# Altium footprint library DASH1_PcbLib1.PcbLib: 26 footprints (part 1 of 2)
Each footprint in its own frame and in the unit in brackets; x right, y up, seen from the top. Pads: shape width x height; smd on the part's side, far side on the other; paste and mask are expansions set on the pad; w line width, h text height; cw(c..) or ccw(c..) is an arc to the next point about the centre after c.
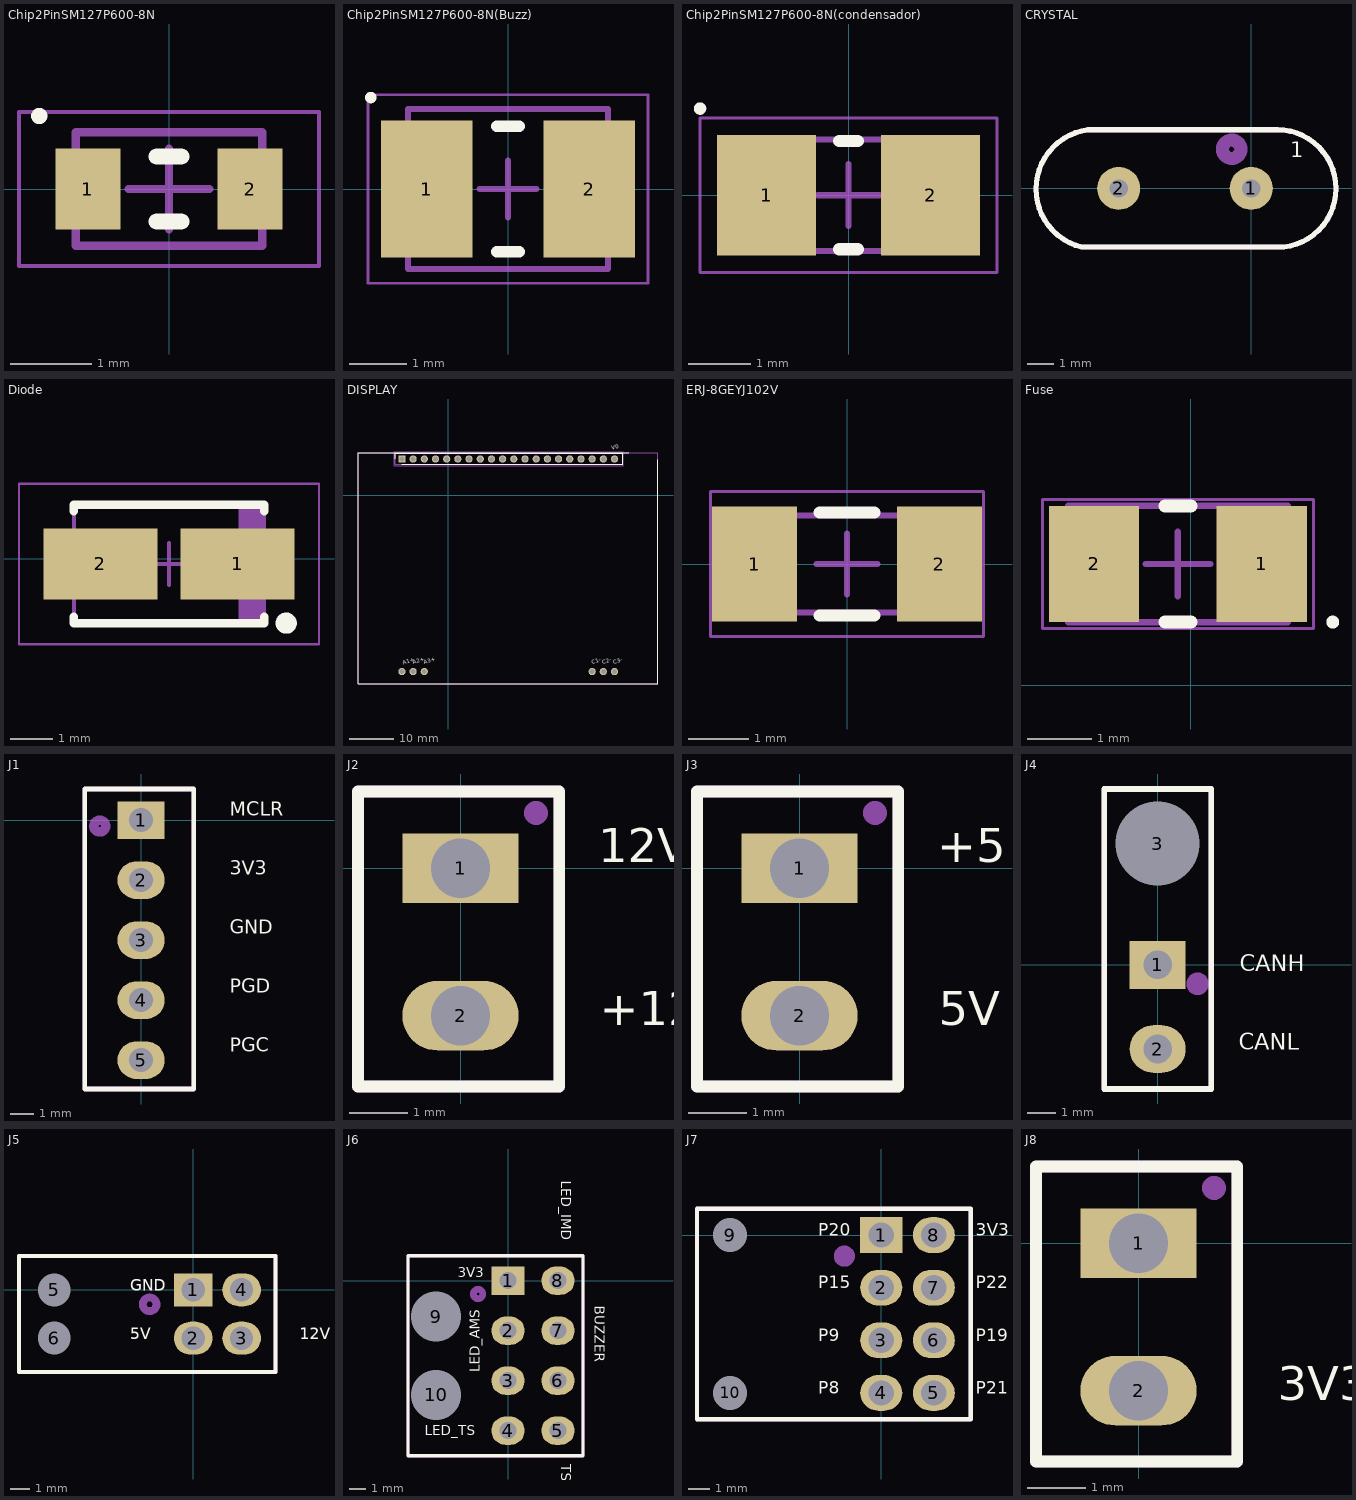
[diagram p0: the footprints below, top view; thin cyan lines are the x and y axes]

## Chip2PinSM127P600-8N [mm]
height 1.31
pads (2):
  rect 0.8x1 smd: 1(-1,0) 2(1,0)
Top Overlay:
  circle w0.1: c-1.6,0.9 r0.05
  lines w0.2: -0.15,-0.4 0.15,-0.4 ; -0.15,0.4 0.15,0.4
Mechanical 13:
  lines w0.1: -1.15,-0.7 -1.15,0.7 1.15,0.7 1.15,-0.7 -1.15,-0.7
Mechanical 15:
  lines w0.05: -1.85,-0.95 -1.85,0.95 1.85,0.95 1.85,-0.95 -1.85,-0.95
  lines w0.1: -0.5,0 0.5,0 ; 0,-0.5 0,0.5
3D body: height 1.31, standoff 0, extent -0.6,-0.7 0.6,0.7
3D body: height 1.31, standoff 0, extent -1.15,-0.7 -0.6,0.7
3D body: height 1.31, standoff 0, extent 0.6,-0.7 1.15,0.7

## Chip2PinSM127P600-8N(Buzz) [mm]
height 1.9
pads (2):
  rect 1.6x2.4 smd: 1(-1.425,0) 2(1.425,0)
Top Overlay:
  circle w0.1: c-2.4,1.6 r0.05
  lines w0.2: -0.2,-1.1 0.2,-1.1 ; -0.2,1.1 0.2,1.1
Mechanical 13:
  lines w0.1: -1.75,-1.4 -1.75,1.4 1.75,1.4 1.75,-1.4 -1.75,-1.4
Mechanical 15:
  lines w0.05: -2.45,-1.65 -2.45,1.65 2.45,1.65 2.45,-1.65 -2.45,-1.65
  lines w0.1: -0.5,0 0.5,0 ; 0,-0.5 0,0.5
3D body: height 1.9, standoff 0, extent -0.85,-1.4 0.85,1.4
3D body: height 1.9, standoff 0, extent -1.75,-1.4 -0.85,1.4
3D body: height 1.9, standoff 0, extent 0.85,-1.4 1.75,1.4

## Chip2PinSM127P600-8N(condensador) [mm]
height 1.8
pads (2):
  rect 1.6x1.95 smd: 1(-1.325,0) 2(1.325,0)
Top Overlay:
  circle w0.1: c-2.4,1.4 r0.05
  lines w0.2: -0.15,-0.875 0.15,-0.875 ; -0.15,0.875 0.15,0.875
Mechanical 13:
  lines w0.1: -1.7,-0.9 1.7,-0.9 1.7,0.9 -1.7,0.9 -1.7,-0.9
Mechanical 15:
  lines w0.05: -2.4,-1.25 2.4,-1.25 2.4,1.25 -2.4,1.25 -2.4,-1.25
  lines w0.1: -0.5,0 0.5,0 ; 0,-0.5 0,0.5
3D body: height 1.8, standoff 0, extent 0.6,-0.9 1.7,0.9
3D body: height 1.8, standoff 0, extent -1.7,-0.9 -0.6,0.9
3D body: height 1.8, standoff 0, extent -0.6,-0.9 0.6,0.9

## CRYSTAL [mil]
pads (2):
  round 65 hole 27.56: 1(0,0) 2(-200,0)
Top Overlay:
  lines w7.87: -255.91,-88.58 cw(c-234.58,-0.91) -246.06,88.58 39.37,88.58 cw(c39.08,-0.29) 49.21,-88.58 -255.91,-88.58
  text "1" at 59.06,39.37 h39.37
Mechanical 13:
  circle w19.68: c-29.53,59.06 r13.92
  lines w7.87: -255.91,-88.58 cw(c-234.58,-0.91) -246.06,88.58 39.37,88.58 cw(c39.08,-0.29) 49.21,-88.58 -255.91,-88.58
  text "1" at 59.06,39.37 h39.37

## Diode [mm]
pads (2):
  rect 2.7x1.68 smd: 1(11.425,-0.125) 2(8.175,-0.125)
Top Overlay:
  circle w0.25: c12.575,-1.525 r0.125
  lines w0.2: 7.55,-1.375 7.55,-1.525 12.05,-1.525 12.05,-1.375 ; 7.55,1.125 7.55,1.275 12.05,1.275 12.05,1.125
Mechanical 13:
  region: 12.05,1.27 11.445,1.27 11.445,-1.52 12.05,-1.52
  lines w0.1: 7.55,-1.52 7.55,1.27 12.05,1.27 12.05,-1.52 7.55,-1.52
Mechanical 15:
  lines w0.05: 6.25,-2.025 6.25,1.775 13.35,1.775 13.35,-2.025 6.25,-2.025
  lines w0.1: 9.3,-0.125 10.3,-0.125 ; 9.8,-0.625 9.8,0.375
3D body: height 2.29, standoff 0, extent 7.55,-1.52 12.05,1.27

## DISPLAY [mm]
pads (26):
  round 1.65 hole 1.1: 21(37.73,8.25) 22(35.19,8.25) 23(32.65,8.25) 24(30.11,8.25) 25(27.57,8.25) 26(25.03,8.25) 27(22.49,8.25) 28(19.95,8.25) 29(17.41,8.25) 30(14.87,8.25) 31(12.33,8.25) 32(9.79,8.25) 33(7.25,8.25) 34(4.71,8.25) 35(2.17,8.25) 36(-0.37,8.25) 37(-2.91,8.25) 38(-5.45,8.25) 39(-7.99,8.25) 41(-10.53,-40.01) 42(-7.99,-40.01) 43(-5.45,-40.01) 44(37.73,-40.01) 45(35.19,-40.01) 46(32.65,-40.01)
  rect 1.65x1.65 / inner round 1.65 / far side rect 1.65x1.65 hole 1.1: 40(-10.53,8.25)
Top Overlay:
  lines w0.05: 40.975,9.65 13.6,9.65 -20.4,9.65 -20.5,9.65 -20.5,-42.75 47.6,-42.75 47.6,-40.01 47.6,-39.71 47.6,8.05
  lines w0.2: -12,8.25 -12,9.6 39.56,9.6 39.56,7 -10.53,7
  text "V0" at 37.17,10.05 h1.52
  text "C3-" at 37.72,-38.65 h1.52
  text "C2-" at 35.12,-38.65 h1.52
  text "C1-" at 32.82,-38.65 h1.52
  text "A3+" at -5.38,-38.65 h1.52
  text "A2+" at -7.88,-38.65 h1.52
  text "A1+" at -10.08,-38.75 h1.52
Mechanical 13:
  lines w0.05: -20.5,-42.75 47.6,-42.75 47.6,-40.01 47.6,-39.71 47.6,8.05 47.6,9.65 13.6,9.65 -20.4,9.65 -20.5,9.65 -20.5,-42.75
  lines w0.2: -12,8.25 -12,9.6 39.56,9.6 39.56,7 -10.53,7
  text "A1+" at -10.08,-38.75 h1.52
  text "A2+" at -7.88,-38.65 h1.52
  text "A3+" at -5.38,-38.65 h1.52
  text "C1-" at 32.82,-38.65 h1.52
  text "C2-" at 35.12,-38.65 h1.52
  text "C3-" at 37.72,-38.65 h1.52
  text "V0" at 37.17,10.05 h1.52
Mechanical 15:
  lines w0.1: -12,7 -12,9.6 39.56,9.6 39.56,7 -12,7
Mechanical 20:
  lines w0.05: -12.25,6.75 -12.25,9.85 39.725,9.85 39.725,6.75 -12.25,6.75

## ERJ-8GEYJ102V [mm] "Chip Resistor, 2-Leads, Body 3,20x1,60mm, IPC Medium Density"
height 0.6
pads (2):
  rect 1.4x1.9 smd: 1(-1.525,0) 2(1.525,0)
Top Overlay:
  lines w0.2: -0.45,-0.85 0.45,-0.85 ; -0.45,0.85 0.45,0.85
Mechanical 13:
  lines w0.1: -1.6,-0.8 1.6,-0.8 1.6,0.8 -1.6,0.8 -1.6,-0.8
Mechanical 15:
  lines w0.05: -2.25,-1.2 2.25,-1.2 2.25,1.2 -2.25,1.2 -2.25,-1.2
  lines w0.1: -0.5,0 0.5,0 ; 0,-0.5 0,0.5
3D body: height 0.6, standoff 0, extent 1.1,-0.8 1.6,0.8
3D body: height 0.6, standoff 0, extent -1.6,-0.8 -1.1,0.8
3D body: height 0.6, standoff 0, extent -1.1,-0.8 1.1,0.8

## Fuse [mm]
pads (2):
  rect 1.4x1.8 smd: 1(1.1,1.88) 2(-1.5,1.88)
Top Overlay:
  circle w0.1: c2.2,0.98 r0.05
  lines w0.2: -0.4,0.98 0,0.98 ; -0.4,2.78 0,2.78
Mechanical 13:
  rectangle: 1.043,0.98 1.5,2.78
  lines w0.1: -1.9,0.98 1.5,0.98 1.5,2.78 -1.9,2.78 -1.9,0.98
Mechanical 15:
  lines w0.05: -2.3,0.88 1.9,0.88 1.9,2.88 -2.3,2.88 -2.3,0.88
  lines w0.1: -0.7,1.88 0.3,1.88 ; -0.2,1.38 -0.2,2.38
3D body "CAPMP3217X18L.step": height 1.8, standoff 0, extent -2.12,0.98 1.72,2.78

## J1 [mm]
pads (5):
  rect 2x1.6 hole 1.02: 1(0,0)
  oval 2x1.6 hole 1.02: 2(0,-2.54) 3(0,-5.08) 4(0,-7.62) 5(0,-10.16)
Top Overlay:
  lines w0.2: -2.39,-11.38 2.225,-11.38 2.225,1.32 -2.39,1.32 -2.39,-11.38
  text "MCLR" at 3.75,0 h1
  text "3V3" at 3.75,-2.5 h1
  text "GND" at 3.75,-5 h1
  text "PGD" at 3.75,-7.5 h1
  text "PGC" at 3.75,-10 h1
Mechanical 13:
  circle w0.4: c-1.75,-0.25 r0.25
  lines w0.2: -2.39,-11.38 -2.39,1.32 2.225,1.32 2.225,-11.38 -2.39,-11.38
  text "PGC" at 3.75,-10 h1
  text "PGD" at 3.75,-7.5 h1
  text "GND" at 3.75,-5 h1
  text "3V3" at 3.75,-2.5 h1
  text "MCLR" at 3.75,0 h1

## J2 [mm]
pads (2):
  rect 2x1.2 hole 1.02: 1(0,0)
  oval 2x1.2 hole 1.02: 2(0,-2.54)
Top Overlay:
  lines w0.2: -1.765,1.32 -1.765,-3.76 1.7,-3.76 1.7,1.32 -1.725,1.32
  text "+12" at 2.4,-2.9 h1
  text "12V" at 2.375,-0.1 h1
Mechanical 13:
  circle w0.254: c1.3,0.95 r0.079
  lines w0.2: -1.765,1.32 -1.765,-3.76 1.7,-3.76 1.7,1.32 -1.725,1.32
  text "12V" at 2.375,-0.1 h1
  text "+12" at 2.4,-2.9 h1

## J3 [mm]
pads (2):
  rect 2x1.2 hole 1.02: 1(0,0)
  oval 2x1.2 hole 1.02: 2(0,-2.54)
Top Overlay:
  lines w0.2: -1.765,1.32 -1.765,-3.76 1.7,-3.76 1.7,1.32 -1.725,1.32
  text "+5" at 2.375,-0.1 h1
  text "5V" at 2.4,-2.9 h1
Mechanical 13:
  circle w0.254: c1.3,0.95 r0.079
  lines w0.2: -1.765,1.32 -1.765,-3.76 1.7,-3.76 1.7,1.32 -1.725,1.32
  text "5V" at 2.4,-2.9 h1
  text "+5" at 2.375,-0.1 h1

## J4 [mm]
pads (3):
  rect 2x1.7 hole 1.02: 1(0,0)
  oval 2x1.7 hole 1.02: 2(0,-3)
  oval 2x1.7 hole 3: 3(0,4.325)
Top Overlay:
  lines w0.2: -1.9,-4.425 -1.9,6.275 1.915,6.275 1.915,-4.425 -1.9,-4.425
  text "CANL" at 2.9,-3.225 h1
  text "CANH" at 2.925,-0.425 h1
Mechanical 13:
  circle w0.4: c1.425,-0.675 r0.202
  lines w0.2: -1.9,-4.425 1.915,-4.425 1.915,6.275 -1.9,6.275 -1.9,-4.425
  text "CANH" at 2.925,-0.425 h1
  text "CANL" at 2.9,-3.225 h1

## J5 [mm]
pads (6):
  rect 2x1.7 hole 1.2: 1(0,0)
  oval 2x1.7 hole 1.2: 2(0,-2.5) 3(2.5,-2.5) 4(2.5,0)
  round 1.5 hole 1.7: 5(-7.18,0) 6(-7.18,-2.5)
Top Overlay:
  lines w0.2: -9,-4.25 -9,1.75 ; -9,-4.25 4.25,-4.25 ; -9,-4.25 4.25,-4.25 ; -9,-4.25 -9,1.75 ; -9,1.75 4.25,1.75 ; -9,1.75 4.25,1.75 ; 4.25,-4.25 4.25,1.75 ; 4.25,-4.25 4.25,1.75
  text "GND" at -3.25,-0.25 h1
  text "5V" at -3.25,-2.75 h1
  text "12V" at 5.5,-2.75 h1
  text "12V" at 5.5,-2.75 h1
  text "5V" at -3.25,-2.75 h1
  text "GND" at -3.25,-0.25 h1
Mechanical 13:
  circle w0.4: c-2.25,-0.75 r0.354
  lines w0.2: -9,-4.25 -9,1.75 4.25,1.75 4.25,-4.25 -9,-4.25
  text "GND" at -3.25,-0.25 h1
  text "5V" at -3.25,-2.75 h1
  text "12V" at 5.5,-2.75 h1
3D body "1053141104.stp": height 9.44, standoff -5, extent -10.38,-4.22 3.024,1.72

## J6 [mm]
pads (10):
  rect 2x1.7 hole 1.02: 1(0,0)
  oval 2x1.7 hole 1.02: 2(0,-3) 3(0,-6) 4(0,-9) 5(3,-9) 6(3,-6) 7(3,-3) 8(3,0)
  oval 2x1.7 hole 3: 9(-4.32,-2.16) 10(-4.32,-6.86)
Top Overlay:
  lines w0.2: -6,-10.5 4.5,-10.5 4.5,1.5 -6,1.5 -6,-10.5
  text "3V3" at -3,0 h1
  text "TS_OFF" at 3,-11 h1
  text "LED_IMD" at 3,6 h1
  text "LED_TS" at -5,-9.5 h1
  text "BUZZER" at 5,-1.5 h1
  text "LED_AMS" at -1.5,-5.5 h1
Mechanical 13:
  circle w0.4: c-1.8,-0.8 r0.283
  lines w0.2: -6,-10.5 -6,1.5 4.5,1.5 4.5,-10.5 -6,-10.5
  text "LED_AMS" at -1.5,-5.5 h1
  text "BUZZER" at 5,-1.5 h1
  text "LED_TS" at -5,-9.5 h1
  text "LED_IMD" at 3,6 h1
  text "TS_OFF" at 3,-11 h1
  text "3V3" at -3,0 h1
  text "'.Designator'" at -1.95,-7.85 h1.3

## J7 [mm]
pads (10):
  rect 2x1.7 hole 1.2: 1(0,0)
  oval 2x1.7 hole 1.2: 2(0,-2.5) 3(0,-5) 4(0,-7.5) 5(2.5,-7.5) 6(2.5,-5) 7(2.5,-2.5) 8(2.5,0)
  round 1.2 hole 1.6: 9(-7.18,0) 10(-7.18,-7.5)
Top Overlay:
  lines w0.2: -8.75,-8.75 4.25,-8.75 4.25,1.25 -8.75,1.25 -8.75,-8.75
  text "3V3" at 4.5,-0.25 h1
  text "P22" at 4.5,-2.75 h1
  text "P19" at 4.5,-5.25 h1
  text "P21" at 4.5,-7.75 h1
  text "P8" at -3,-7.75 h1
  text "P9" at -3,-5.25 h1
  text "P15" at -3,-2.75 h1
  text "P20" at -3,-0.25 h1
Mechanical 13:
  circle w0.5: c-1.75,-1 r0.25
  lines w0.2: -8.75,-8.75 -8.75,1.25 4.25,1.25 4.25,-8.75 -8.75,-8.75
  text "'.Designator'" at -8.25,-4 h1
  text "P20" at -3,-0.25 h1
  text "P15" at -3,-2.75 h1
  text "P9" at -3,-5.25 h1
  text "P8" at -3,-7.75 h1
  text "P21" at 4.5,-7.75 h1
  text "P19" at 4.5,-5.25 h1
  text "P22" at 4.5,-2.75 h1
  text "3V3" at 4.5,-0.25 h1
3D body "1053141108.stp": height 9.44, standoff -5, extent -10.402,-9.265 3.002,1.675

## J8 [mm]
pads (2):
  rect 2x1.2 hole 1.02: 1(0,0)
  oval 2x1.2 hole 1.02: 2(0,-2.54)
Top Overlay:
  lines w0.2: -1.765,1.32 -1.765,-3.76 1.7,-3.76 1.7,1.32 -1.725,1.32
  text "3V3" at 2.4,-2.9 h1
Mechanical 13:
  circle w0.254: c1.3,0.95 r0.079
  lines w0.2: -1.765,1.32 -1.765,-3.76 1.7,-3.76 1.7,1.32 -1.725,1.32
  text "3V3" at 2.4,-2.9 h1